# EAGLE library part BM06B-GHS-TBT (library connectors)
JST GH 6P Vertical Header
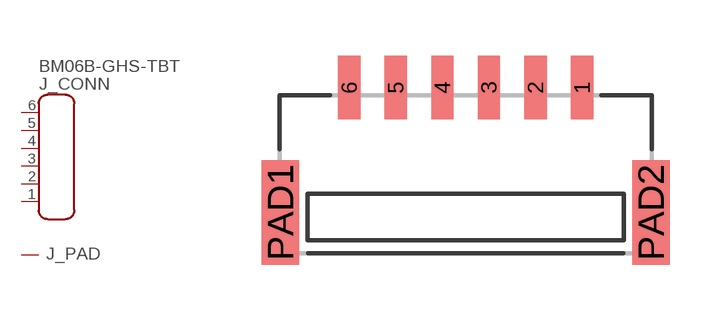
[diagram p9: symbol with the pads of BM06B-GHS-TBT; footprint BM06B-GHS-TBT]

Designator prefix J; gates _CONN=CONN6-1 _PAD=PAD

## BM06B-GHS-TBT (MF: JST; MPN: BM06B-GHS-TBT; REVIEWED: YES; TESTED: YES)  [BM06B-GHS-TBT]
1  _CONN:1
2  _CONN:2
3  _CONN:3
4  _CONN:4
5  _CONN:5
6  _CONN:6
PAD1  _PAD:PAD
PAD2  _PAD:PAD

## Footprint BM06B-GHS-TBT (pad centres in mm)
smd 0.6 x 1.7: 1 3.125,3.35; 2 1.875,3.35; 3 0.625,3.35; 4 -0.625,3.35; 5 -1.875,3.35; 6 -3.125,3.35
smd 1 x 2.8: PAD1 -4.975,0; PAD2 4.975,0